# Altium integrated library 3000.IntLib: 1 symbol
Pins are listed as number, name and electrical type; pins without a type are passive.

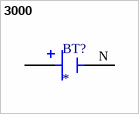
[diagram p0: symbol 3000]

## 3000
designator BT?
Battery Holder: SMT, 1 Coin Cell, 12mm, PhosBronze/Tin-Nickel | Keystone Electronics 3000; MF: Keystone Electronics Corp.; MP: 3000; SnapEDA_Link: https://www.snapeda.com/parts/3000/Keystone/view-part/?ref=snap; Package: None; Value: *; Check_prices: https://www.snapeda.com/parts/3000/Keystone/view-part/?ref=eda
footprint BAT_3000
pins: N NEG, P1 POS, P2 POS